# EAGLE library part ANALOGDEVICES-ADXL345 (library GClueSensor)
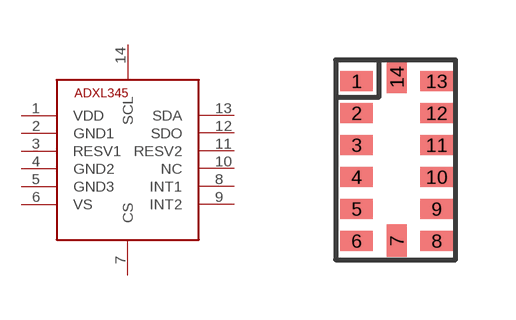
[diagram p4: symbol with the pads of ANALOGDEVICES-ADXL345; footprint ANALOGDEVICES-ADXL345]

Designator prefix -

## ANALOGDEVICES-ADXL345  [ANALOGDEVICES-ADXL345]
1  VDD
2  GND1
3  RESV1
4  GND2
5  GND3
6  VS
7  CS
8  INT1
9  INT2
10  NC
11  RESV2
12  SDO
13  SDA
14  SCL

## Footprint ANALOGDEVICES-ADXL345 (pad centres in mm)
smd 0.813 x 0.5: 1 -0.97,1.97; 2 -0.97,1.17; 3 -0.97,0.37; 4 -0.97,-0.43; 5 -0.97,-1.23; 6 -0.97,-2.03; 8 1.03,-2.03; 9 1.03,-1.23; 10 1.03,-0.43; 11 1.03,0.37; 12 1.03,1.17; 13 1.03,1.97
smd 0.5 x 0.813: 7 0.03,-2.03; 14 0.03,2.07